# EAGLE library part CONN_5X2_1P00_IN (library leaf)
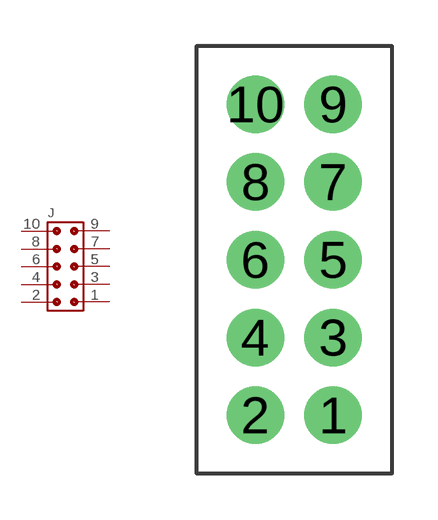
[diagram p3: symbol with the pads of CONN_5X2_0P100_IN; footprint CONN_5X2_0P100_IN]

Designator prefix J

## CONN_5X2_1P00_IN  [CONN_5X2_0P100_IN]
1  1
2  2
3  3
4  4
5  5
6  6
7  7
8  8
9  9
10  10

## Footprint CONN_5X2_0P100_IN (pad centres in mm)
drill 1.016 pad 1.88: 1 0,0; 2 -2.54,0; 3 0,2.54; 4 -2.54,2.54; 5 0,5.08; 6 -2.54,5.08; 7 0,7.62; 8 -2.54,7.62; 9 0,10.16; 10 -2.54,10.16